# Altium footprint library 178P6764P0001.PcbLib: 1 footprints
Each footprint in its own frame and in the unit in brackets; x right, y up, seen from the top. Pads: shape width x height; smd on the part's side, far side on the other; paste and mask are expansions set on the pad; w line width, h text height; cw(c..) or ccw(c..) is an arc to the next point about the centre after c.
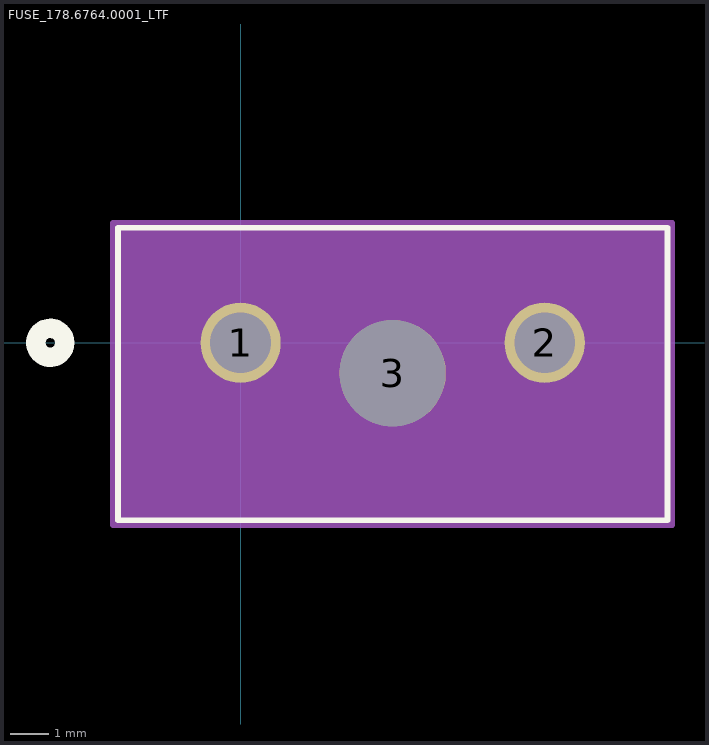
[diagram p0: the footprint, top view; thin cyan lines are the x and y axes]

## FUSE_178.6764.0001_LTF [mil]
pads (3):
  round 83 hole 63 paste-41.5 mask+0: 1(0,0) 2(314.96,0)
  round 110 hole 110 unplated paste+0 mask+0: 3(157.48,-31.5)
Top Overlay:
  circle w20: c-197.02,0 r15
  lines w6: -127.02,-183.83 441.98,-183.83 441.98,119.17 -127.02,119.17 -127.02,-183.83
  text ".Designator" at 19.98,-25 h50
Bottom Overlay:
  circle w20: c-197.02,0 r15
Mechanical 13:
  circle w20: c0,75 r15
  lines w1: -122.02,-178.83 436.98,-178.83 436.98,114.17 -122.02,114.17 -122.02,-178.83
  text ".Designator" at 19.98,-25 h50
Mechanical 15:
  region: 446.98,124.17 -132.02,124.17 -132.02,-188.83 446.98,-188.83
  lines w6: -132.02,-188.83 -132.02,124.17 446.98,124.17 446.98,-188.83 -132.02,-188.83